# EAGLE library part SSA-LXH1025SRD (library led)
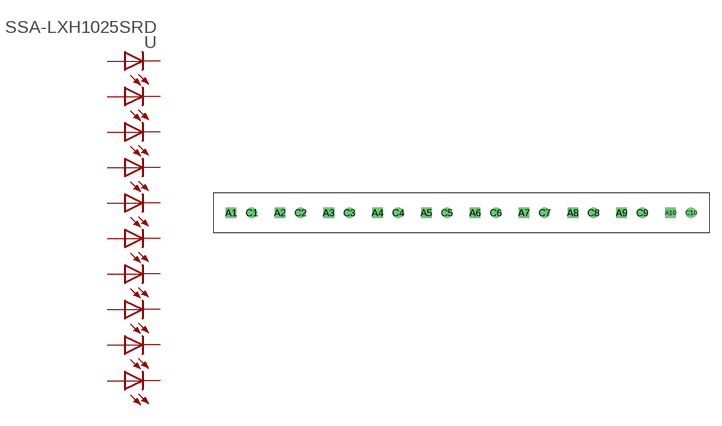
[diagram p24: symbol with the pads of SSA-LXH1025SRD; footprint SSA-LXH1025SRD]

Designator prefix -

## SSA-LXH1025SRDSSA-LXH1025SRD  [SSA-LXH1025SRD]
A1  A1  pas
A2  A2  pas
A3  A3  pas
A4  A4  pas
A5  A5  pas
A6  A6  pas
A7  A7  pas
A8  A8  pas
A9  A9  pas
A10  A10  pas
C1  C1  pas
C2  C2  pas
C3  C3  pas
C4  C4  pas
C5  C5  pas
C6  C6  pas
C7  C7  pas
C8  C8  pas
C9  C9  pas
C10  C10  pas

## Footprint SSA-LXH1025SRD (pad centres in mm)
drill 0.8 square: A1 -28.27,0; A2 -22.27,0; A3 -16.27,0; A4 -10.27,0; A5 -4.27,0; A6 1.73,0; A7 7.73,0; A8 13.73,0; A9 19.73,0; A10 25.73,0
drill 0.8: C1 -25.73,0; C2 -19.73,0; C3 -13.73,0; C4 -7.73,0; C5 -1.73,0; C6 4.27,0; C7 10.27,0; C8 16.27,0; C9 22.27,0; C10 28.27,0